# EAGLE library part AD53X6 (library mike)
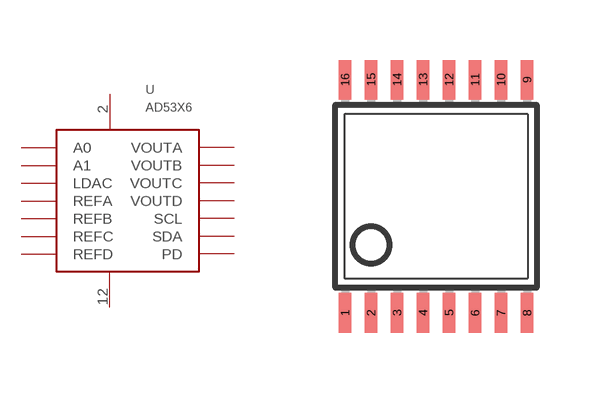
[diagram p18: symbol with the pads of TSSOP16; footprint TSSOP16]

Designator prefix -

## AD53X6  [TSSOP16]
1  LDAC  in
2  VDD  pwr
3  VOUTA  out
4  VOUTB  out
5  VOUTC  out
6  REFA  pas
7  REFB  pas
8  REFC  pas
9  REFD  pas
10  PD  in
11  VOUTD  out
12  GND  pwr
13  SDA  in
14  SCL  in
15  A0  in
16  A1  in

## Footprint TSSOP16 (pad centres in mm)
Thin Shrink Small Outline Plastic 16 MAX3223-MAX3243.pdf
smd 0.305 x 0.991: 1 -2.275,-2.918; 2 -1.625,-2.918; 3 -0.975,-2.918; 4 -0.325,-2.918; 5 0.325,-2.918; 6 0.975,-2.918; 7 1.625,-2.918; 8 2.275,-2.918; 9 2.275,2.918; 10 1.625,2.918; 11 0.975,2.918; 12 0.325,2.918; 13 -0.325,2.918; 14 -0.975,2.918; 15 -1.625,2.918; 16 -2.275,2.918